# EAGLE library part 2X12_HEADER (library CONNECTORs)
A 2 row, 12 column, 24 pin 0.1" header.
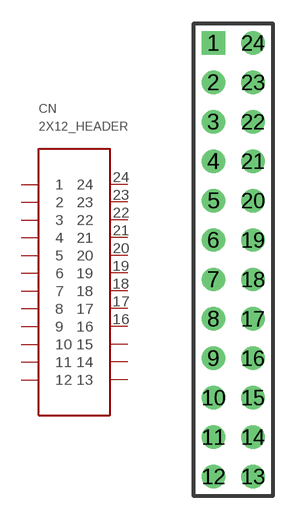
[diagram p16: symbol with the pads of 2X12HEADER; footprint 2X12HEADER]

Designator prefix CN

## 2X12_HEADER  [2X12HEADER]
1  1
2  2
3  3
4  4
5  5
6  6
7  7
8  8
9  9
10  10
11  11
12  12
13  13
14  14
15  15
16  16
17  17
18  18
19  19
20  20
21  21
22  22
23  23
24  24

## Footprint 2X12HEADER (pad centres in mm)
drill 1 pad 1.5 square: 1 -1.27,13.97
drill 1 pad 1.5: 2 -1.27,11.43; 3 -1.27,8.89; 4 -1.27,6.35; 5 -1.27,3.81; 6 -1.27,1.27; 7 -1.27,-1.27; 8 -1.27,-3.81; 9 -1.27,-6.35; 10 -1.27,-8.89; 11 -1.27,-11.43; 12 -1.27,-13.97; 13 1.27,-13.97; 14 1.27,-11.43; 15 1.27,-8.89; 16 1.27,-6.35; 17 1.27,-3.81; 18 1.27,-1.27; 19 1.27,1.27; 20 1.27,3.81; 21 1.27,6.35; 22 1.27,8.89; 23 1.27,11.43; 24 1.27,13.97